# Altium integrated library Capacitos$.IntLib: 174 symbols (part 1 of 2)
Pins are listed as number, name and electrical type; pins without a type are passive.

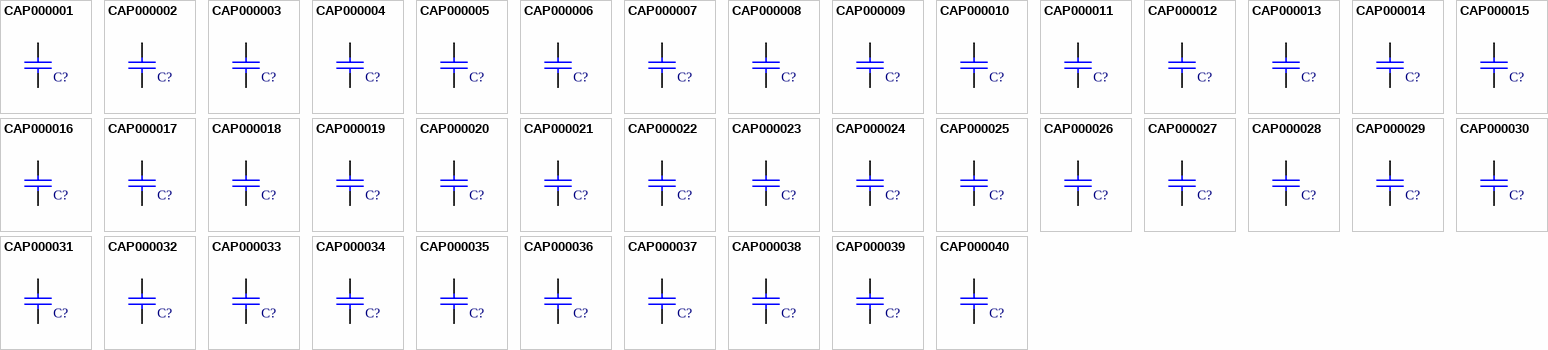
[diagram p0: symbols CAP000001 to CAP000040]

## CAP000001
designator C?, comment 10pF  (value not drawn)
CAP CER 10pF 50V TH; Manufactuer: TDK; Manufacturer-PN: FK28C0G1H100D; UoA Stock#: CAP000001; Assembly Method: Through hole; Item Type: Item; Path: ece/ts/Lists/Stock Inventory; Value: 10pF; Size/Package: Radial; Voltage/Current: 50V; Datasheet Link: http://share.engineering.auckland.ac.nz/ece/ts/Student%20Documents/CER%20CAP.pdf; Supplier1: Electus; Supplier1-PN: RC5312; Component Type: NA; Category: Capacitor; Review-date: 41972; Status: Active
footprint ECE-CAPR0.2x0.1TH
pins: 1, 2

## CAP000002
designator C?, comment 12pF  (value not drawn)
CAP CER 12pF 50V TH; UoA Stock#: CAP000002; Assembly Method: Through hole; Item Type: Item; Path: ece/ts/Lists/Stock Inventory; Value: 12pF; Size/Package: Radial; Voltage/Current: 50V; Datasheet Link: http://share.engineering.auckland.ac.nz/ece/ts/Student%20Documents/CER%20CAP.pdf; Component Type: NA; Category: Capacitor; Status: Obsolete
footprint ECE-CAPR0.2x0.1TH
pins: 1, 2

## CAP000003
designator C?, comment 15pF  (value not drawn)
CAP CER 15pF 50V TH; Manufactuer: Murata; Manufacturer-PN: RPE5C1H150J2K1Z03B; UoA Stock#: CAP000003; Assembly Method: Through hole; Item Type: Item; Path: ece/ts/Lists/Stock Inventory; Value: 15pF; Size/Package: Radial; Voltage/Current: 50V; Datasheet Link: http://share.engineering.auckland.ac.nz/ece/ts/Student%20Documents/CAP-Murata-L0010E.pdf; Supplier1: Electus; Supplier1-PN: RC5314; Component Type: NA; Category: Capacitor; Review-date: 41972; Status: Active
footprint ECE-CAPR0.2x0.1TH
pins: 1, 2

## CAP000004
designator C?, comment 18pF  (value not drawn)
CAP CER 18pF 50V TH; UoA Stock#: CAP000004; Assembly Method: Through hole; Item Type: Item; Path: ece/ts/Lists/Stock Inventory; Value: 18pF; Size/Package: Radial; Voltage/Current: 50V; Datasheet Link: http://share.engineering.auckland.ac.nz/ece/ts/Student%20Documents/CER%20CAP.pdf; Component Type: NA; Category: Capacitor; Status: Obsolete
footprint ECE-CAPR0.2x0.1TH
pins: 1, 2

## CAP000005
designator C?, comment 22pF  (value not drawn)
CAP CER 22pF 50V TH; Manufactuer: Murata; Manufacturer-PN: RPE5C1H220J2K1Z03B; UoA Stock#: CAP000005; Assembly Method: Through hole; Item Type: Item; Path: ece/ts/Lists/Stock Inventory; Value: 22pF; Size/Package: Radial; Voltage/Current: 50V; Datasheet Link: http://share.engineering.auckland.ac.nz/ece/ts/Student%20Documents/CAP-Murata-L0010E.pdf; Supplier1: Electus; Supplier1-PN: RC5316; Component Type: NA; Category: Capacitor; Review-date: 41972; Status: Active
footprint ECE-CAPR0.2x0.1TH
pins: 1, 2

## CAP000006
designator C?, comment 27pF  (value not drawn)
CAP CER 27pF 50V TH; UoA Stock#: CAP000006; Assembly Method: Through hole; Item Type: Item; Path: ece/ts/Lists/Stock Inventory; Value: 27pF; Size/Package: Radial; Voltage/Current: 50V; Datasheet Link: http://share.engineering.auckland.ac.nz/ece/ts/Student%20Documents/CER%20CAP.pdf; Component Type: NA; Category: Capacitor; Status: Obsolete
footprint ECE-CAPR0.2x0.1TH
pins: 1, 2

## CAP000007
designator C?, comment 33pF  (value not drawn)
CAP CER 33pF 50V TH; Manufactuer: TDK; Manufacturer-PN: FK28C0G1H330J; UoA Stock#: CAP000007; Assembly Method: Through hole; Item Type: Item; Path: ece/ts/Lists/Stock Inventory; Value: 33pF; Size/Package: Radial; Voltage/Current: 50V; Datasheet Link: http://share.engineering.auckland.ac.nz/ece/ts/Student%20Documents/CER%20CAP.pdf; Supplier1: Electus; Supplier1-PN: RC5318; Component Type: NA; Category: Capacitor; Review-date: 41972; Status: Active
footprint ECE-CAPR0.2x0.1TH
pins: 1, 2

## CAP000008
designator C?, comment 39pF  (value not drawn)
CAP CER 39pF 50V TH; UoA Stock#: CAP000008; Assembly Method: Through hole; Item Type: Item; Path: ece/ts/Lists/Stock Inventory; Value: 39pF; Size/Package: Radial; Voltage/Current: 50V; Datasheet Link: http://share.engineering.auckland.ac.nz/ece/ts/Student%20Documents/CER%20CAP.pdf; Component Type: NA; Category: Capacitor; Status: Obsolete
footprint ECE-CAPR0.2x0.1TH
pins: 1, 2

## CAP000009
designator C?, comment 47pF  (value not drawn)
CAP CER 47pF 50V TH; Manufactuer: TDK; Manufacturer-PN: FK28C0G1H470J; UoA Stock#: CAP000009; Assembly Method: Through hole; Item Type: Item; Path: ece/ts/Lists/Stock Inventory; Value: 47pF; Size/Package: Radial; Voltage/Current: 50V; Datasheet Link: http://share.engineering.auckland.ac.nz/ece/ts/Student%20Documents/CER%20CAP.pdf; Supplier1: Electus; Supplier1-PN: RC5320; Component Type: NA; Category: Capacitor; Review-date: 41972; Status: Active
footprint ECE-CAPR0.2x0.1TH
pins: 1, 2

## CAP000010
designator C?, comment 56pF  (value not drawn)
CAP CER 56pF 50V TH; UoA Stock#: CAP000010; Assembly Method: Through hole; Item Type: Item; Path: ece/ts/Lists/Stock Inventory; Value: 56pF; Size/Package: Radial; Voltage/Current: 50V; Datasheet Link: http://share.engineering.auckland.ac.nz/ece/ts/Student%20Documents/CER%20CAP.pdf; Component Type: NA; Category: Capacitor; Status: Obsolete
footprint ECE-CAPR0.2x0.1TH
pins: 1, 2

## CAP000011
designator C?, comment 68pF  (value not drawn)
CAP CER 68pF 50V TH; Manufactuer: Murata; Manufacturer-PN: RPE5C1H680J2K1Z03B; UoA Stock#: CAP000011; Assembly Method: Through hole; Item Type: Item; Path: ece/ts/Lists/Stock Inventory; Value: 68pF; Size/Package: Radial; Voltage/Current: 50V; Datasheet Link: http://share.engineering.auckland.ac.nz/ece/ts/Student%20Documents/CAP-Murata-L0010E.pdf; Supplier1: Electus; Supplier1-PN: RC5322; Component Type: NA; Category: Capacitor; Review-date: 41972; Status: Active
footprint ECE-CAPR0.2x0.1TH
pins: 1, 2

## CAP000012
designator C?, comment 82pF  (value not drawn)
CAP CER82pF 50V TH; UoA Stock#: CAP000012; Assembly Method: Through hole; Item Type: Item; Path: ece/ts/Lists/Stock Inventory; Value: 82pF; Size/Package: Radial; Voltage/Current: 50V; Datasheet Link: http://share.engineering.auckland.ac.nz/ece/ts/Student%20Documents/CER%20CAP.pdf; Component Type: NA; Category: Capacitor; Status: Obsolete
footprint ECE-CAPR0.2x0.1TH
pins: 1, 2

## CAP000013
designator C?, comment 100pF  (value not drawn)
CAP CER 100pF 50V TH; Manufactuer: Murata; Manufacturer-PN: RPE5C1H101J2K1A03B; UoA Stock#: CAP000013; Assembly Method: Through hole; Item Type: Item; Path: ece/ts/Lists/Stock Inventory; Value: 100pF; Size/Package: Radial; Voltage/Current: 50V; Datasheet Link: http://share.engineering.auckland.ac.nz/ece/ts/Student%20Documents/CAP-Murata-L0010E.pdf; Supplier1: Electus; Supplier1-PN: RC5324; Component Type: NA; Category: Capacitor; Review-date: 41972; Status: Active
footprint ECE-CAPR0.2x0.1TH
pins: 1, 2

## CAP000014
designator C?, comment 120pF  (value not drawn)
CAP CER 120pF 50V TH; UoA Stock#: CAP000014; Assembly Method: Through hole; Item Type: Item; Path: ece/ts/Lists/Stock Inventory; Value: 120pF; Size/Package: Radial; Voltage/Current: 50V; Datasheet Link: http://share.engineering.auckland.ac.nz/ece/ts/Student%20Documents/CER%20CAP.pdf; Component Type: NA; Category: Capacitor; Status: Obsolete
footprint ECE-CAPR0.2x0.1TH
pins: 1, 2

## CAP000015
designator C?, comment 150pF  (value not drawn)
CAP CER 150pF 50V TH; Manufactuer: TDK; Manufacturer-PN: FK28C0G1H151J; UoA Stock#: CAP000015; Assembly Method: Through hole; Item Type: Item; Path: ece/ts/Lists/Stock Inventory; Value: 150pF; Size/Package: Radial; Voltage/Current: 50V; Datasheet Link: http://share.engineering.auckland.ac.nz/ece/ts/Student%20Documents/CER%20CAP.pdf; Supplier1: Electus; Supplier1-PN: RC5326; Component Type: NA; Category: Capacitor; Review-date: 41972; Status: Active
footprint ECE-CAPR0.2x0.1TH
pins: 1, 2

## CAP000016
designator C?, comment 180pF  (value not drawn)
CAP CER 180pF 50V TH; UoA Stock#: CAP000016; Assembly Method: Through hole; Item Type: Item; Path: ece/ts/Lists/Stock Inventory; Value: 180pF; Size/Package: Radial; Voltage/Current: 50V; Datasheet Link: http://share.engineering.auckland.ac.nz/ece/ts/Student%20Documents/CER%20CAP.pdf; Component Type: NA; Category: Capacitor; Status: Obsolete
footprint ECE-CAPR0.2x0.1TH
pins: 1, 2

## CAP000017
designator C?, comment 220pF  (value not drawn)
CAP CER 220pF 50V TH; Manufactuer: TDK; Manufacturer-PN: FK28C0G1H221J; UoA Stock#: CAP000017; Assembly Method: Through hole; Item Type: Item; Path: ece/ts/Lists/Stock Inventory; Value: 220pF; Size/Package: Radial; Voltage/Current: 50V; Datasheet Link: http://share.engineering.auckland.ac.nz/ece/ts/Student%20Documents/CER%20CAP.pdf; Supplier1: Electus; Supplier1-PN: RC5328; Component Type: NA; Category: Capacitor; Review-date: 41972; Status: Active
footprint ECE-CAPR0.2x0.1TH
pins: 1, 2

## CAP000018
designator C?, comment 270pF  (value not drawn)
CAP CER 270pF 50V TH; UoA Stock#: CAP000018; Assembly Method: Through hole; Item Type: Item; Path: ece/ts/Lists/Stock Inventory; Value: 270pF; Size/Package: Radial; Voltage/Current: 50V; Datasheet Link: http://share.engineering.auckland.ac.nz/ece/ts/Student%20Documents/CER%20CAP.pdf; Component Type: NA; Category: Capacitor; Status: Obsolete
footprint ECE-CAPR0.2x0.1TH
pins: 1, 2

## CAP000019
designator C?, comment 330pF  (value not drawn)
CAP CER 330pF 50V TH; Manufactuer: Murata; Manufacturer-PN: RDER71H331K0K1C03B; UoA Stock#: CAP000019; Assembly Method: Through hole; Item Type: Item; Path: ece/ts/Lists/Stock Inventory; Value: 330pF; Size/Package: Radial; Voltage/Current: 50V; Datasheet Link: http://share.engineering.auckland.ac.nz/ece/ts/Student%20Documents/CAP-Murata-RDER71H471K0K1C03B.pdf; Supplier1: Electus; Supplier1-PN: RC5330; Component Type: NA; Category: Capacitor; Review-date: 41972; Status: Active
footprint ECE-CAPR0.2x0.1TH
pins: 1, 2

## CAP000020
designator C?, comment 390pF  (value not drawn)
CAP CER 390pF 50V TH; UoA Stock#: CAP000020; Assembly Method: Through hole; Item Type: Item; Path: ece/ts/Lists/Stock Inventory; Value: 390pF; Size/Package: Radial; Voltage/Current: 50V; Datasheet Link: http://share.engineering.auckland.ac.nz/ece/ts/Student%20Documents/CER%20CAP.pdf; Component Type: NA; Category: Capacitor; Status: Obsolete
footprint ECE-CAPR0.2x0.1TH
pins: 1, 2

## CAP000021
designator C?, comment 470pF  (value not drawn)
CAP CER 470pF 50V TH; Manufactuer: Murata; Manufacturer-PN: RDER71H471K0K1C03B; UoA Stock#: CAP000021; Assembly Method: Through hole; Item Type: Item; Path: ece/ts/Lists/Stock Inventory; Value: 470pF; Size/Package: Radial; Voltage/Current: 50V; Datasheet Link: http://share.engineering.auckland.ac.nz/ece/ts/Student%20Documents/CAP-Murata-RDER71H471K0K1C03B.pdf; Supplier1: Electus; Supplier1-PN: RC5332; Component Type: NA; Category: Capacitor; Review-date: 41972; Status: Active
footprint ECE-CAPR0.2x0.1TH
pins: 1, 2

## CAP000022
designator C?, comment 560pF  (value not drawn)
CAP CER 560pF 50V TH; UoA Stock#: CAP000022; Assembly Method: Through hole; Item Type: Item; Path: ece/ts/Lists/Stock Inventory; Value: 560pF; Size/Package: Radial; Voltage/Current: 50V; Datasheet Link: http://share.engineering.auckland.ac.nz/ece/ts/Student%20Documents/CER%20CAP.pdf; Component Type: NA; Category: Capacitor; Status: Obsolete
footprint ECE-CAPR0.2x0.1TH
pins: 1, 2

## CAP000023
designator C?, comment 680pF  (value not drawn)
CAP CER 680pF 50V TH; Manufactuer: TDK; Manufacturer-PN: FK28C0G1H681J; UoA Stock#: CAP000023; Assembly Method: Through hole; Item Type: Item; Path: ece/ts/Lists/Stock Inventory; Value: 680pF; Size/Package: Radial; Voltage/Current: 50V; Datasheet Link: http://share.engineering.auckland.ac.nz/ece/ts/Student%20Documents/CER%20CAP.pdf; Supplier1: Electus; Supplier1-PN: RC5334; Component Type: NA; Category: Capacitor; Review-date: 41972; Status: Active
footprint ECE-CAPR0.2x0.1TH
pins: 1, 2

## CAP000024
designator C?, comment 820pF  (value not drawn)
CAP CER 820pF 50V TH; UoA Stock#: CAP000024; Assembly Method: Through hole; Item Type: Item; Path: ece/ts/Lists/Stock Inventory; Value: 820pF; Size/Package: Radial; Voltage/Current: 50V; Datasheet Link: http://share.engineering.auckland.ac.nz/ece/ts/Student%20Documents/CER%20CAP.pdf; Component Type: NA; Category: Capacitor; Status: Obsolete
footprint ECE-CAPR0.2x0.1TH
pins: 1, 2

## CAP000025
designator C?, comment 1nF  (value not drawn)
CAP CER 1nF 50V TH; Manufactuer: TDK; Manufacturer-PN: FK28C0G1H102J; UoA Stock#: CAP000025; Assembly Method: Through hole; Item Type: Item; Path: ece/ts/Lists/Stock Inventory; Value: 1nF; Size/Package: Radial; Voltage/Current: 50V; Datasheet Link: http://share.engineering.auckland.ac.nz/ece/ts/Student%20Documents/CER%20CAP.pdf; Supplier1: Electus; Supplier1-PN: ER5336; Component Type: NA; Category: Capacitor; Review-date: 41972; Status: Active
footprint ECE-CAPR0.2x0.1TH
pins: 1, 2

## CAP000026
designator C?, comment 1.2nF  (value not drawn)
CAP CER 1.2nF 50V TH; UoA Stock#: CAP000026; Assembly Method: Through hole; Item Type: Item; Path: ece/ts/Lists/Stock Inventory; Value: 1.2nF; Size/Package: Radial; Voltage/Current: 50V; Datasheet Link: http://share.engineering.auckland.ac.nz/ece/ts/Student%20Documents/CER%20CAP.pdf; Component Type: NA; Category: Capacitor; Status: Obsolete
footprint ECE-CAPR0.2x0.1TH
pins: 1, 2

## CAP000027
designator C?, comment 1.5nF  (value not drawn)
CAP CER 1.5nF 50V TH; Manufactuer: TDK; Manufacturer-PN: FK28X7R1H152K; UoA Stock#: CAP000027; Assembly Method: Through hole; Item Type: Item; Path: ece/ts/Lists/Stock Inventory; Value: 1.5nF; Size/Package: Radial; Voltage/Current: 50V; Datasheet Link: http://share.engineering.auckland.ac.nz/ece/ts/Student%20Documents/CER%20CAP.pdf; Supplier1: Electus; Supplier1-PN: ER5338; Component Type: NA; Category: Capacitor; Review-date: 41972; Status: Active
footprint ECE-CAPR0.2x0.1TH
pins: 1, 2

## CAP000028
designator C?, comment 1.8nF  (value not drawn)
CAP CER 1.8nF 50V TH; UoA Stock#: CAP000028; Assembly Method: Through hole; Item Type: Item; Path: ece/ts/Lists/Stock Inventory; Value: 1.8nF; Size/Package: Radial; Voltage/Current: 50V; Datasheet Link: http://share.engineering.auckland.ac.nz/ece/ts/Student%20Documents/CER%20CAP.pdf; Component Type: NA; Category: Capacitor; Status: Obsolete
footprint ECE-CAPR0.2x0.1TH
pins: 1, 2

## CAP000029
designator C?, comment 2.2nF  (value not drawn)
CAP CER 2.2nF 50V TH; Manufactuer: Murata; Manufacturer-PN: RPE5C1H222J2K1A03B; UoA Stock#: CAP000029; Assembly Method: Through hole; Item Type: Item; Path: ece/ts/Lists/Stock Inventory; Value: 2.2nF; Size/Package: Radial; Voltage/Current: 50V; Datasheet Link: http://share.engineering.auckland.ac.nz/ece/ts/Student%20Documents/CAP-Murata-L0010E.pdf; Supplier1: Electus; Supplier1-PN: ER5340; Component Type: NA; Category: Capacitor; Review-date: 41972; Status: Active
footprint ECE-CAPR0.2x0.1TH
pins: 1, 2

## CAP000030
designator C?, comment 2.7nF  (value not drawn)
CAP CER 2.7nF 50V TH; UoA Stock#: CAP000030; Assembly Method: Through hole; Item Type: Item; Path: ece/ts/Lists/Stock Inventory; Value: 2.7nF; Size/Package: Radial; Voltage/Current: 50V; Datasheet Link: http://share.engineering.auckland.ac.nz/ece/ts/Student%20Documents/CER%20CAP.pdf; Component Type: NA; Category: Capacitor; Status: Obsolete
footprint ECE-CAPR0.2x0.1TH
pins: 1, 2

## CAP000031
designator C?, comment 3.3nF  (value not drawn)
CAP CER 3.3nF 50V TH; Manufactuer: Murata; Manufacturer-PN: RHEL81H332K1K1A03B; UoA Stock#: CAP000031; Assembly Method: Through hole; Item Type: Item; Path: ece/ts/Lists/Stock Inventory; Value: 3.3nF; Size/Package: Radial; Voltage/Current: 50V; Datasheet Link: http://share.engineering.auckland.ac.nz/ece/ts/Student%20Documents/CAP-Murata-L0010E.pdf; Supplier1: Electus; Supplier1-PN: ER5342; Component Type: NA; Category: Capacitor; Review-date: 41972; Status: Active
footprint ECE-CAPR0.2x0.1TH
pins: 1, 2

## CAP000032
designator C?, comment 3.9nF  (value not drawn)
CAP CER 3.9nF 50V TH; UoA Stock#: CAP000032; Assembly Method: Through hole; Item Type: Item; Path: ece/ts/Lists/Stock Inventory; Value: 3.9nF; Size/Package: Radial; Voltage/Current: 50V; Datasheet Link: http://share.engineering.auckland.ac.nz/ece/ts/Student%20Documents/CER%20CAP.pdf; Component Type: NA; Category: Capacitor; Status: Obsolete
footprint ECE-CAPR0.2x0.1TH
pins: 1, 2

## CAP000033
designator C?, comment 4.7nF  (value not drawn)
CAP CER 4.7nF 50V TH; Manufactuer: Murata; Manufacturer-PN: RPER71H472K2K1A03B; UoA Stock#: CAP000033; Assembly Method: Through hole; Item Type: Item; Path: ece/ts/Lists/Stock Inventory; Value: 4.7nF; Size/Package: Radial; Voltage/Current: 50V; Datasheet Link: http://share.engineering.auckland.ac.nz/ece/ts/Student%20Documents/CAP-Murata-L0010E.pdf; Supplier1: Electus; Supplier1-PN: ER5344; Component Type: NA; Category: Capacitor; Review-date: 41972; Status: Active
footprint ECE-CAPR0.2x0.1TH
pins: 1, 2

## CAP000034
designator C?, comment 5.6nF  (value not drawn)
CAP CER 5.6nF 50V TH; UoA Stock#: CAP000034; Assembly Method: Through hole; Item Type: Item; Path: ece/ts/Lists/Stock Inventory; Value: 5.6nF; Size/Package: Radial; Voltage/Current: 50V; Datasheet Link: http://share.engineering.auckland.ac.nz/ece/ts/Student%20Documents/CER%20CAP.pdf; Component Type: NA; Category: Capacitor; Status: Obsolete
footprint ECE-CAPR0.2x0.1TH
pins: 1, 2

## CAP000035
designator C?, comment 6.8nF  (value not drawn)
CAP CER 6.8nF 50V TH; Manufactuer: Murata; Manufacturer-PN: RDER71H682K0K1C03B; UoA Stock#: CAP000035; Assembly Method: Through hole; Item Type: Item; Path: ece/ts/Lists/Stock Inventory; Value: 6.8nF; Size/Package: Radial; Voltage/Current: 50V; Datasheet Link: http://share.engineering.auckland.ac.nz/ece/ts/Student%20Documents/CAP-Murata-RDER71H471K0K1C03B.pdf; Supplier1: Electus; Supplier1-PN: ER5346; Component Type: NA; Category: Capacitor; Review-date: 41972; Status: Active
footprint ECE-CAPR0.2x0.1TH
pins: 1, 2

## CAP000036
designator C?, comment 8.2nF  (value not drawn)
CAP CER 8.2nF 50V TH; UoA Stock#: CAP000036; Assembly Method: Through hole; Item Type: Item; Path: ece/ts/Lists/Stock Inventory; Value: 8.2nF; Size/Package: Radial; Voltage/Current: 50V; Datasheet Link: http://share.engineering.auckland.ac.nz/ece/ts/Student%20Documents/CER%20CAP.pdf; Component Type: NA; Category: Capacitor; Status: Obsolete
footprint ECE-CAPR0.2x0.1TH
pins: 1, 2

## CAP000037
designator C?, comment 10nF  (value not drawn)
CAP CER 10nF 50V TH; Manufactuer: Murata; Manufacturer-PN: RDER71H103K0M1C03A; UoA Stock#: CAP000037; Assembly Method: Through hole; Item Type: Item; Path: ece/ts/Lists/Stock Inventory; Value: 10nF; Size/Package: Radial; Voltage/Current: 50V; Datasheet Link: http://share.engineering.auckland.ac.nz/ece/ts/Student%20Documents/CAP-Murata-RDER71H471K0K1C03B.pdf; Supplier1: Electus; Supplier1-PN: ER5348; Component Type: NA; Category: Capacitor; Review-date: 41972; Status: Active
footprint ECE-CAPR0.2x0.1TH
pins: 1, 2

## CAP000038
designator C?, comment 12nF  (value not drawn)
CAP CER 12nF 50V TH; UoA Stock#: CAP000038; Assembly Method: Through hole; Item Type: Item; Path: ece/ts/Lists/Stock Inventory; Value: 12nF; Size/Package: Radial; Voltage/Current: 50V; Datasheet Link: http://share.engineering.auckland.ac.nz/ece/ts/Student%20Documents/CER%20CAP.pdf; Component Type: NA; Category: Capacitor; Status: Obsolete
footprint ECE-CAPR0.2x0.1TH
pins: 1, 2

## CAP000039
designator C?, comment 15nF  (value not drawn)
CAP CER 15nF 50V TH; Manufactuer: Murata; Manufacturer-PN: RHEL81H153K1K1A03B; UoA Stock#: CAP000039; Assembly Method: Through hole; Item Type: Item; Path: ece/ts/Lists/Stock Inventory; Value: 15nF; Size/Package: Radial; Voltage/Current: 50V; Datasheet Link: http://share.engineering.auckland.ac.nz/ece/ts/Student%20Documents/CAP-Murata-L0010E.pdf; Supplier1: Electus; Supplier1-PN: ER5350; Component Type: NA; Category: Capacitor; Review-date: 41972; Status: Active
footprint ECE-CAPR0.2x0.1TH
pins: 1, 2

## CAP000040
designator C?, comment 18nF  (value not drawn)
CAP CER 18nF 50V TH; UoA Stock#: CAP000040; Assembly Method: Through hole; Item Type: Item; Path: ece/ts/Lists/Stock Inventory; Value: 18nF; Size/Package: Radial; Voltage/Current: 50V; Datasheet Link: http://share.engineering.auckland.ac.nz/ece/ts/Student%20Documents/CER%20CAP.pdf; Component Type: NA; Category: Capacitor; Status: Obsolete
footprint ECE-CAPR0.2x0.1TH
pins: 1, 2

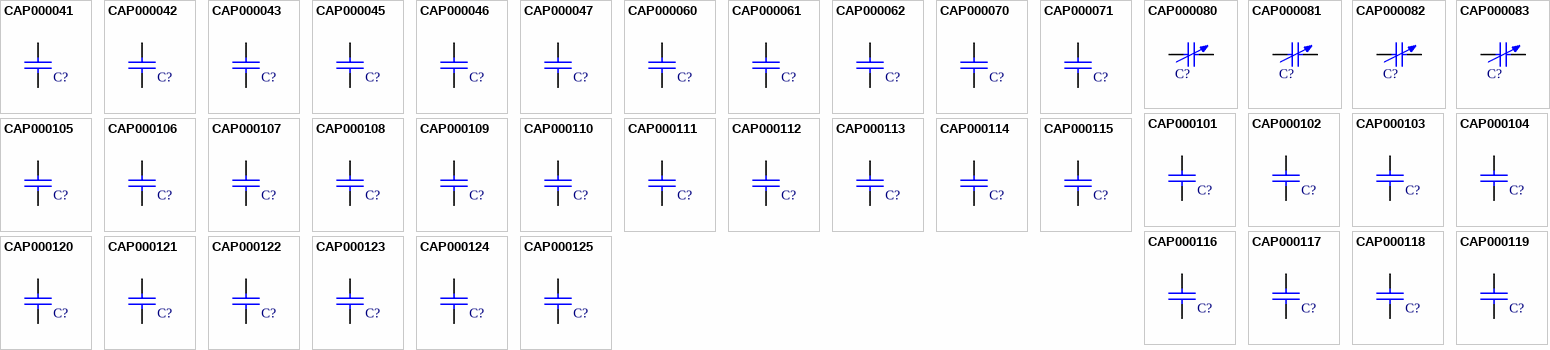
[diagram p1: symbols CAP000041 to CAP000125]

## CAP000041
designator C?, comment 22nF  (value not drawn)
CAP CER 22nF 50V TH; Manufactuer: Murata; Manufacturer-PN: RHEL81H223K1K1A03B; UoA Stock#: CAP000041; Assembly Method: Through hole; Item Type: Item; Path: ece/ts/Lists/Stock Inventory; Value: 22nF; Size/Package: Radial; Voltage/Current: 50V; Datasheet Link: http://share.engineering.auckland.ac.nz/ece/ts/Student%20Documents/CAP-Murata-L0010E.pdf; Supplier1: Electus; Supplier1-PN: ER5352; Component Type: NA; Category: Capacitor; Review-date: 41972; Status: Active
footprint ECE-CAPR0.2x0.1TH
pins: 1, 2

## CAP000042
designator C?, comment 27nF  (value not drawn)
CAP CER 27nF 50V TH; UoA Stock#: CAP000042; Assembly Method: Through hole; Item Type: Item; Path: ece/ts/Lists/Stock Inventory; Value: 27nF; Size/Package: Radial; Voltage/Current: 50V; Datasheet Link: http://share.engineering.auckland.ac.nz/ece/ts/Student%20Documents/CER%20CAP.pdf; Component Type: NA; Category: Capacitor; Status: Obsolete
footprint ECE-CAPR0.2x0.1TH
pins: 1, 2

## CAP000043
designator C?, comment 33nF  (value not drawn)
CAP CER 33nF 50V TH; Manufactuer: Murata; Manufacturer-PN: RHEL81H333K1K1A03B; UoA Stock#: CAP000043; Assembly Method: Through hole; Item Type: Item; Path: ece/ts/Lists/Stock Inventory; Value: 33nF; Size/Package: Radial; Voltage/Current: 50V; Datasheet Link: http://share.engineering.auckland.ac.nz/ece/ts/Student%20Documents/CAP-Murata-L0010E.pdf; Supplier1: Electus; Supplier1-PN: ER5354; Component Type: NA; Category: Capacitor; Review-date: 41972; Status: Active
footprint ECE-CAPR0.2x0.1TH
pins: 1, 2

## CAP000045
designator C?, comment 47nF  (value not drawn)
CAP CER 47nF 50V TH; Manufactuer: Murata; Manufacturer-PN: RHEL81H473K1K1A03B; UoA Stock#: CAP000045; Assembly Method: Through hole; Item Type: Item; Path: ece/ts/Lists/Stock Inventory; Value: 47nF; Size/Package: Radial; Voltage/Current: 50V; Datasheet Link: http://share.engineering.auckland.ac.nz/ece/ts/Student%20Documents/CAP-Murata-L0010E.pdf; Supplier1: Electus; Supplier1-PN: ER5356; Component Type: NA; Category: Capacitor; Review-date: 41972; Status: Active
footprint ECE-CAPR0.2x0.1TH
pins: 1, 2

## CAP000046
designator C?, comment 56nF  (value not drawn)
CAP CER 56nF 50V TH; UoA Stock#: CAP000046; Assembly Method: Through hole; Item Type: Item; Path: ece/ts/Lists/Stock Inventory; Value: 56nF; Size/Package: Radial; Voltage/Current: 50V; Datasheet Link: http://share.engineering.auckland.ac.nz/ece/ts/Student%20Documents/CER%20CAP.pdf; Component Type: NA; Category: Capacitor; Status: Obsolete
footprint ECE-CAPR0.2x0.1TH
pins: 1, 2

## CAP000047
designator C?, comment 68nF  (value not drawn)
CAP CER 68nF 50V TH; Manufactuer: Murata; Manufacturer-PN: RHEL81H683K1K1A03B; UoA Stock#: CAP000047; Assembly Method: Through hole; Item Type: Item; Path: ece/ts/Lists/Stock Inventory; Value: 68nF; Size/Package: Radial; Voltage/Current: 50V; Datasheet Link: http://share.engineering.auckland.ac.nz/ece/ts/Student%20Documents/CAP-Murata-L0010E.pdf; Supplier1: Electus; Supplier1-PN: ER5358; Component Type: NA; Category: Capacitor; Review-date: 41972; Status: Active
footprint ECE-CAPR0.2x0.1TH
pins: 1, 2

## CAP000060
designator C?, comment 10nF  (value not drawn)
CAP MONO 10nF 50 VTH; Manufactuer: Murata; UoA Stock#: CAP000060; Assembly Method: Through hole; Voltage/Current: 50V; Item Type: Item; Path: ece/ts/Lists/Stock Inventory; Value: 10nF; Size/Package: Radial; Datasheet Link: http://share.engineering.auckland.ac.nz/ece/ts/Student%20Documents/CAP-Murata-RDER71H471K0K1C03B.pdf; Supplier1: Electus; Supplier1-PN: RC5480; Component Type: NA; Category: Capacitor; Review-date: 41989; Status: Active
footprint ECE-CAPR0.2x0.1TH
pins: 1, 2

## CAP000061
designator C?, comment 100nF  (value not drawn)
CAP MONO 100nF 50V TH; Manufactuer: Murata; UoA Stock#: CAP000061; Assembly Method: Through hole; Item Type: Item; Path: ece/ts/Lists/Stock Inventory; Value: 100nF; Size/Package: Radial; Voltage/Current: 50V; Datasheet Link: http://share.engineering.auckland.ac.nz/ece/ts/Student%20Documents/CAP-Murata-RDER71H471K0K1C03B.pdf; Supplier1: Electus; Supplier1-PN: RC5490; Component Type: NA; Category: Capacitor; Review-date: 41990; Status: Active
footprint ECE-CAPR0.2x0.1TH
pins: 1, 2

## CAP000062
designator C?, comment 1uF  (value not drawn)
CAP MONO 1uF 50V TH; Manufactuer: Murata; UoA Stock#: CAP000062; Assembly Method: Through hole; Item Type: Item; Path: ece/ts/Lists/Stock Inventory; Value: 1uF; Size/Package: Radial; Voltage/Current: 50V; Datasheet Link: http://share.engineering.auckland.ac.nz/ece/ts/Student%20Documents/CAP-Murata-RDER71H471K0K1C03B.pdf; Supplier1: Electus; Supplier1-PN: RC5499; Component Type: NA; Category: Capacitor; Review-date: 41991; Status: Active
footprint ECE-CAPR0.2x0.1TH
pins: 1, 2

## CAP000070
designator C?, comment 0.1uF  (value not drawn)
CAP POLY 0.1uF TH; Manufactuer: Kemet; UoA Stock#: CAP000070; Assembly Method: Through hole; Voltage/Current: 400V; Item Type: Item; Path: ece/ts/Lists/Stock Inventory; Value: 0.1uF; Size/Package: Radial; Datasheet Link: http://share.engineering.auckland.ac.nz/ece/ts/Student%20Documents/F3301_R76-PolyProp.pdf; Supplier1: Captron; Supplier1-PN: PE0.22-400F15-G; Component Type: NA; Category: Capacitor; Review-date: 41990; Status: Active
footprint ECE-CAPA15-18x5TH
pins: 1, 2

## CAP000071
designator C?, comment 0.22uF  (value not drawn)
CAP POLY 0.22uF TH; Manufactuer: Kemet; UoA Stock#: CAP000071; Assembly Method: Through hole; Voltage/Current: 400V; Item Type: Item; Path: ece/ts/Lists/Stock Inventory; Value: 0.22uF; Size/Package: Radial; Datasheet Link: http://share.engineering.auckland.ac.nz/ece/ts/Student%20Documents/F3301_R76-PolyProp.pdf; Supplier1: Captron; Supplier1-PN: PE0.1-400F15-G; Component Type: NA; Category: Capacitor; Review-date: 41991; Status: Active
footprint ECE-CAPA15-18x9TH
pins: 1, 2

## CAP000080
designator C?, comment 3-10pF  (value not drawn)
CAP TRIM 3-10pF TH; Manufactuer: Suntan; Manufacturer-PN: RV5714; UoA Stock#: CAP000080; Assembly Method: Through hole; Voltage/Current: 50V; Item Type: Item; Path: ece/ts/Lists/Stock Inventory; Value: 3-10pF; Size/Package: Radial; Datasheet Link: http://share.engineering.auckland.ac.nz/ece/ts/Student%20Documents/Trimcap.pdf; Supplier1: Jaycar Electronics; Supplier1-PN: RV5714; Component Type: NA; Category: Capacitor; Review-date: 41990; Status: Active
footprint ECE-CAPVR6.3X5TH
pins: 1, 2

## CAP000081
designator C?, comment 6.2-30pF  (value not drawn)
CAP TRIM 6.2-30pF TH; Manufactuer: Suntan; Manufacturer-PN: RV5716; UoA Stock#: CAP000081; Assembly Method: Through hole; Voltage/Current: 50; Item Type: Item; Path: ece/ts/Lists/Stock Inventory; Value: 6.2-30pF; Size/Package: Radial; Datasheet Link: http://share.engineering.auckland.ac.nz/ece/ts/Student%20Documents/Trimcap.pdf; Supplier1: Jaycar Electronics; Supplier1-PN: RV5716; Component Type: NA; Category: Capacitor; Review-date: 41991; Status: Active
footprint ECE-CAPVR6.3X5TH
pins: 1, 2

## CAP000082
designator C?, comment 6.8-40pF  (value not drawn)
CAP TRIM 6.8-40pF TH; Manufactuer: Suntan; UoA Stock#: CAP000082; Assembly Method: Through hole; Voltage/Current: 50V; Item Type: Item; Path: ece/ts/Lists/Stock Inventory; Value: 6.8-40pF; Size/Package: Radial; Datasheet Link: http://share.engineering.auckland.ac.nz/ece/ts/Student%20Documents/Trimcap.pdf; Supplier1: Jaycar Electronics; Supplier1-PN: RV5718; Component Type: NA; Category: Capacitor; Review-date: 41990; Status: Active
footprint ECE-CAPVR6.3X5TH
pins: 1, 2

## CAP000083
designator C?, comment 9.8-50pF  (value not drawn)
CAP TRIM 9.8-50pF TH; Manufactuer: Suntan; UoA Stock#: CAP000083; Assembly Method: Through hole; Voltage/Current: 50V; Item Type: Item; Path: ece/ts/Lists/Stock Inventory; Value: 9.8-50pF; Size/Package: Radial; Datasheet Link: http://share.engineering.auckland.ac.nz/ece/ts/Student%20Documents/Trimcap.pdf; Supplier1: Jaycar Electronics; Supplier1-PN: RV5720; Component Type: NA; Category: Capacitor; Review-date: 41991; Status: Active
footprint ECE-CAPVR6.3X5TH
pins: 1, 2

## CAP000101
designator C?, comment 1nF  (value not drawn)
CAP MKT 1nF 100V TH; Manufactuer: Suntan; Manufacturer-PN: TS05002A102KAA; UoA Stock#: CAP000101; Assembly Method: Through hole; Item Type: Item; Path: ece/ts/Lists/Stock Inventory; Value: 1nF; Size/Package: 7.5X2.5X6.5mm; Voltage/Current: 100V; Datasheet Link: http://share.engineering.auckland.ac.nz/ece/ts/Student%20Documents/Caps-TS05.pdf; Supplier1: Electus; Supplier1-PN: RM7010; Component Type: NA; Category: Capacitor; Review-date: 41990; Status: Active
footprint ECE-CAPR0.2x0.1TH
pins: 1, 2

## CAP000102
designator C?, comment 1.2nF  (value not drawn)
CAP MKT 1.2nF 100V TH; Manufactuer: Suntan; UoA Stock#: CAP000102; Assembly Method: Through hole; Item Type: Item; Path: ece/ts/Lists/Stock Inventory; Value: 1.2nF; Size/Package: Radial; Voltage/Current: 100V; Datasheet Link: http://share.engineering.auckland.ac.nz/ece/ts/Student%20Documents/Caps-TS05.pdf; Supplier1: Electus; Supplier1-PN: RM7012; Component Type: NA; Category: Capacitor; Review-date: 41991; Status: Active
footprint ECE-CAPR0.2x0.1TH
pins: 1, 2

## CAP000103
designator C?, comment 1.5nF  (value not drawn)
CAP MKT 1.5nF 100V TH; Manufactuer: Suntan; UoA Stock#: CAP000103; Assembly Method: Through hole; Item Type: Item; Path: ece/ts/Lists/Stock Inventory; Value: 1.5nF; Size/Package: Radial; Voltage/Current: 100V; Datasheet Link: http://share.engineering.auckland.ac.nz/ece/ts/Student%20Documents/Caps-TS05.pdf; Supplier1: Electus; Supplier1-PN: RM7015; Component Type: NA; Category: Capacitor; Review-date: 41990; Status: Active
footprint ECE-CAPR0.2x0.1TH
pins: 1, 2

## CAP000104
designator C?, comment 1.8nF  (value not drawn)
CAP MKT 1.8nF 100V TH; Manufactuer: Suntan; UoA Stock#: CAP000104; Assembly Method: Through hole; Item Type: Item; Path: ece/ts/Lists/Stock Inventory; Value: 1.8nF; Size/Package: Radial; Voltage/Current: 100V; Datasheet Link: http://share.engineering.auckland.ac.nz/ece/ts/Student%20Documents/Caps-TS05.pdf; Supplier1: Electus; Supplier1-PN: RG5018; Component Type: NA; Category: Capacitor; Review-date: 41991; Status: Active
footprint ECE-CAPR0.2x0.1TH
pins: 1, 2

## CAP000105
designator C?, comment 2.2nF  (value not drawn)
CAP MKT 2.2nF 100V TH; Manufactuer: Suntan; UoA Stock#: CAP000105; Assembly Method: Through hole; Item Type: Item; Path: ece/ts/Lists/Stock Inventory; Value: 2.2nF; Size/Package: Radial; Voltage/Current: 100V; Datasheet Link: http://share.engineering.auckland.ac.nz/ece/ts/Student%20Documents/Caps-TS05.pdf; Supplier1: Electus; Supplier1-PN: RM7022; Component Type: NA; Category: Capacitor; Status: Active
footprint ECE-CAPR0.2x0.1TH
pins: 1, 2

## CAP000106
designator C?, comment 2.7nF  (value not drawn)
CAP MKT 2.7nF 100V TH; Manufactuer: Suntan; UoA Stock#: CAP000106; Assembly Method: Through hole; Item Type: Item; Path: ece/ts/Lists/Stock Inventory; Value: 2.7nF; Size/Package: Radial; Voltage/Current: 100V; Datasheet Link: http://share.engineering.auckland.ac.nz/ece/ts/Student%20Documents/Caps-TS05.pdf; Supplier1: Electus; Supplier1-PN: RM7027; Component Type: NA; Category: Capacitor; Status: Active
footprint ECE-CAPR0.2x0.1TH
pins: 1, 2

## CAP000107
designator C?, comment 3.3nF  (value not drawn)
CAP MKT 3.3nF 100V TH; Manufactuer: Suntan; UoA Stock#: CAP000107; Assembly Method: Through hole; Item Type: Item; Path: ece/ts/Lists/Stock Inventory; Value: 3.3nF; Size/Package: Radial; Voltage/Current: 100V; Datasheet Link: http://share.engineering.auckland.ac.nz/ece/ts/Student%20Documents/Caps-TS05.pdf; Supplier1: Electus; Supplier1-PN: RM7033; Component Type: NA; Category: Capacitor; Status: Active
footprint ECE-CAPR0.2x0.1TH
pins: 1, 2

## CAP000108
designator C?, comment 3.9nF  (value not drawn)
CAP MKT 3.9nF 100V TH; Manufactuer: Suntan; UoA Stock#: CAP000108; Assembly Method: Through hole; Item Type: Item; Path: ece/ts/Lists/Stock Inventory; Value: 3.9nF; Size/Package: Radial; Voltage/Current: 100V; Datasheet Link: http://share.engineering.auckland.ac.nz/ece/ts/Student%20Documents/Caps-TS05.pdf; Supplier1: Electus; Supplier1-PN: RM7039; Component Type: NA; Category: Capacitor; Status: Active
footprint ECE-CAPR0.2x0.1TH
pins: 1, 2

## CAP000109
designator C?, comment 4.7nF  (value not drawn)
CAP MKT 4.7nF 100V TH; Manufactuer: Suntan; UoA Stock#: CAP000109; Assembly Method: Through hole; Item Type: Item; Path: ece/ts/Lists/Stock Inventory; Value: 4.7nF; Size/Package: Radial; Voltage/Current: 100V; Datasheet Link: http://share.engineering.auckland.ac.nz/ece/ts/Student%20Documents/Caps-TS05.pdf; Supplier1: Electus; Supplier1-PN: RM7047; Component Type: NA; Category: Capacitor; Status: Active
footprint ECE-CAPR0.2x0.1TH
pins: 1, 2

## CAP000110
designator C?, comment 5.6nF  (value not drawn)
CAP MKT 5.6nF 100V TH; Manufactuer: Suntan; UoA Stock#: CAP000110; Assembly Method: Through hole; Item Type: Item; Path: ece/ts/Lists/Stock Inventory; Value: 5.6nF; Size/Package: Radial; Voltage/Current: 100V; Datasheet Link: http://share.engineering.auckland.ac.nz/ece/ts/Student%20Documents/Caps-TS05.pdf; Supplier1: Electus; Supplier1-PN: RG5050; Component Type: NA; Category: Capacitor; Status: Active
footprint ECE-CAPR0.2x0.1TH
pins: 1, 2

## CAP000111
designator C?, comment 6.8nF  (value not drawn)
CAP MKT 6.8nF 100V TH; Manufactuer: Suntan; UoA Stock#: CAP000111; Assembly Method: Through hole; Item Type: Item; Path: ece/ts/Lists/Stock Inventory; Value: 6.8nF; Size/Package: Radial; Voltage/Current: 100V; Datasheet Link: http://share.engineering.auckland.ac.nz/ece/ts/Student%20Documents/Caps-TS05.pdf; Supplier1: Electus; Supplier1-PN: RM7055; Component Type: NA; Category: Capacitor; Status: Active
footprint ECE-CAPR0.2x0.1TH
pins: 1, 2

## CAP000112
designator C?, comment 8.2nF  (value not drawn)
CAP MKT 8.2nF 100V TH; Manufactuer: Suntan; UoA Stock#: CAP000112; Assembly Method: Through hole; Item Type: Item; Path: ece/ts/Lists/Stock Inventory; Value: 8.2nF; Size/Package: Radial; Voltage/Current: 100V; Datasheet Link: http://share.engineering.auckland.ac.nz/ece/ts/Student%20Documents/Caps-TS05.pdf; Supplier1: Electus; Supplier1-PN: RG5060; Component Type: NA; Category: Capacitor; Status: Active
footprint ECE-CAPR0.2x0.1TH
pins: 1, 2

## CAP000113
designator C?, comment 10nF  (value not drawn)
CAP MKT 10nF 100V TH; Manufactuer: Suntan; UoA Stock#: CAP000113; Assembly Method: Through hole; Item Type: Item; Path: ece/ts/Lists/Stock Inventory; Value: 10nF; Size/Package: Radial; Voltage/Current: 100V; Datasheet Link: http://share.engineering.auckland.ac.nz/ece/ts/Student%20Documents/Caps-TS05.pdf; Supplier1: Electus; Supplier1-PN: RM7065; Component Type: NA; Category: Capacitor; Status: Active
footprint ECE-CAPR0.2x0.1TH
pins: 1, 2

## CAP000114
designator C?, comment 12nF  (value not drawn)
CAP MKT 12nF 100V TH; Manufactuer: Suntan; UoA Stock#: CAP000114; Assembly Method: Through hole; Item Type: Item; Path: ece/ts/Lists/Stock Inventory; Value: 12nF; Size/Package: Radial; Voltage/Current: 100V; Datasheet Link: http://share.engineering.auckland.ac.nz/ece/ts/Student%20Documents/Caps-TS05.pdf; Supplier1: Electus; Supplier1-PN: RM7070; Component Type: NA; Category: Capacitor; Status: Active
footprint ECE-CAPR0.2x0.1TH
pins: 1, 2

## CAP000115
designator C?, comment 15nF  (value not drawn)
CAP MKT 15nF 100V TH; Manufactuer: Suntan; UoA Stock#: CAP000115; Assembly Method: Through hole; Item Type: Item; Path: ece/ts/Lists/Stock Inventory; Value: 15nF; Size/Package: Radial; Voltage/Current: 100V; Datasheet Link: http://share.engineering.auckland.ac.nz/ece/ts/Student%20Documents/Caps-TS05.pdf; Supplier1: Electus; Supplier1-PN: RM7075; Component Type: NA; Category: Capacitor; Status: Active
footprint ECE-CAPR0.2x0.1TH
pins: 1, 2

## CAP000116
designator C?, comment 18nF  (value not drawn)
CAP MKT 18nF 100V TH; Manufactuer: Suntan; UoA Stock#: CAP000116; Assembly Method: Through hole; Item Type: Item; Path: ece/ts/Lists/Stock Inventory; Value: 18nF; Size/Package: Radial; Voltage/Current: 100V; Datasheet Link: http://share.engineering.auckland.ac.nz/ece/ts/Student%20Documents/Caps-TS05.pdf; Supplier1: Electus; Supplier1-PN: RM7080; Component Type: NA; Category: Capacitor; Status: Active
footprint ECE-CAPR0.2x0.1TH
pins: 1, 2

## CAP000117
designator C?, comment 22nF  (value not drawn)
CAP MKT 22nF 100V TH; Manufactuer: Suntan; UoA Stock#: CAP000117; Assembly Method: Through hole; Item Type: Item; Path: ece/ts/Lists/Stock Inventory; Value: 22nF; Size/Package: Radial; Voltage/Current: 100V; Datasheet Link: http://share.engineering.auckland.ac.nz/ece/ts/Student%20Documents/Caps-TS05.pdf; Supplier1: Electus; Supplier1-PN: RM7085; Component Type: NA; Category: Capacitor; Status: Active
footprint ECE-CAPR0.2x0.1TH
pins: 1, 2

## CAP000118
designator C?, comment 27nF  (value not drawn)
CAP MKT 27nF 100V TH; Manufactuer: Suntan; UoA Stock#: CAP000118; Assembly Method: Through hole; Item Type: Item; Path: ece/ts/Lists/Stock Inventory; Value: 27nF; Size/Package: Radial; Voltage/Current: 100V; Datasheet Link: http://share.engineering.auckland.ac.nz/ece/ts/Student%20Documents/Caps-TS05.pdf; Supplier1: Electus; Supplier1-PN: RG5090; Component Type: NA; Category: Capacitor; Status: Active
footprint ECE-CAPR0.2x0.1TH
pins: 1, 2

## CAP000119
designator C?, comment 33nF  (value not drawn)
CAP MKT 33nF 100V TH; Manufactuer: Suntan; UoA Stock#: CAP000119; Assembly Method: Through hole; Item Type: Item; Path: ece/ts/Lists/Stock Inventory; Value: 33nF; Size/Package: Radial; Voltage/Current: 100V; Datasheet Link: http://share.engineering.auckland.ac.nz/ece/ts/Student%20Documents/Caps-TS05.pdf; Supplier1: Electus; Supplier1-PN: RM7095; Component Type: NA; Category: Capacitor; Status: Active
footprint ECE-CAPR0.2x0.1TH
pins: 1, 2

## CAP000120
designator C?, comment 39nF  (value not drawn)
CAP MKT 39nF 100V TH; Manufactuer: Suntan; UoA Stock#: CAP000120; Assembly Method: Through hole; Item Type: Item; Path: ece/ts/Lists/Stock Inventory; Value: 39nF; Size/Package: Radial; Voltage/Current: 100V; Datasheet Link: http://share.engineering.auckland.ac.nz/ece/ts/Student%20Documents/Caps-TS05.pdf; Supplier1: Electus; Supplier1-PN: RM7100; Component Type: NA; Category: Capacitor; Status: Active
footprint ECE-CAPR0.2x0.1TH
pins: 1, 2

## CAP000121
designator C?, comment 47nF  (value not drawn)
CAP MKT 47nF 100V TH; Manufactuer: Suntan; UoA Stock#: CAP000121; Assembly Method: Through hole; Item Type: Item; Path: ece/ts/Lists/Stock Inventory; Value: 47nF; Size/Package: Radial; Voltage/Current: 100V; Datasheet Link: http://share.engineering.auckland.ac.nz/ece/ts/Student%20Documents/Caps-TS05.pdf; Supplier1: Electus; Supplier1-PN: RM7105; Component Type: NA; Category: Capacitor; Status: Active
footprint ECE-CAPR0.2x0.1TH
pins: 1, 2

## CAP000122
designator C?, comment 56nF  (value not drawn)
CAP MKT 56nF 100V TH; Manufactuer: Suntan; UoA Stock#: CAP000122; Assembly Method: Through hole; Item Type: Item; Path: ece/ts/Lists/Stock Inventory; Value: 56nF; Size/Package: Radial; Voltage/Current: 100V; Datasheet Link: http://share.engineering.auckland.ac.nz/ece/ts/Student%20Documents/Caps-TS05.pdf; Supplier1: Electus; Supplier1-PN: RM7110; Component Type: NA; Category: Capacitor; Status: Active
footprint ECE-CAPR0.2x0.1TH
pins: 1, 2

## CAP000123
designator C?, comment 68nF  (value not drawn)
CAP MKT 68nF 100V TH; Manufactuer: Suntan; UoA Stock#: CAP000123; Assembly Method: Through hole; Item Type: Item; Path: ece/ts/Lists/Stock Inventory; Value: 68nF; Size/Package: Radial; Voltage/Current: 100V; Datasheet Link: http://share.engineering.auckland.ac.nz/ece/ts/Student%20Documents/Caps-TS05.pdf; Supplier1: Electus; Supplier1-PN: RM7115; Component Type: NA; Category: Capacitor; Status: Active
footprint ECE-CAPR0.2x0.1TH
pins: 1, 2

## CAP000124
designator C?, comment 82nF  (value not drawn)
CAP MKT 82nF 100V TH; Manufactuer: Suntan; UoA Stock#: CAP000124; Assembly Method: Through hole; Item Type: Item; Path: ece/ts/Lists/Stock Inventory; Value: 82nF; Size/Package: Radial; Voltage/Current: 100V; Datasheet Link: http://share.engineering.auckland.ac.nz/ece/ts/Student%20Documents/Caps-TS05.pdf; Supplier1: Electus; Supplier1-PN: RM7120; Component Type: NA; Category: Capacitor; Status: Active
footprint ECE-CAPR0.2x0.1TH
pins: 1, 2

## CAP000125
designator C?, comment 100nF  (value not drawn)
CAP MKT 100nF 100V TH; Manufactuer: Suntan; UoA Stock#: CAP000125; Assembly Method: Through hole; Item Type: Item; Path: ece/ts/Lists/Stock Inventory; Value: 100nF; Size/Package: Radial; Voltage/Current: 100V; Datasheet Link: http://share.engineering.auckland.ac.nz/ece/ts/Student%20Documents/Caps-TS05.pdf; Supplier1: Electus; Supplier1-PN: RM7125; Component Type: NA; Category: Capacitor; Status: Active
footprint ECE-CAPR0.2x0.1TH
pins: 1, 2

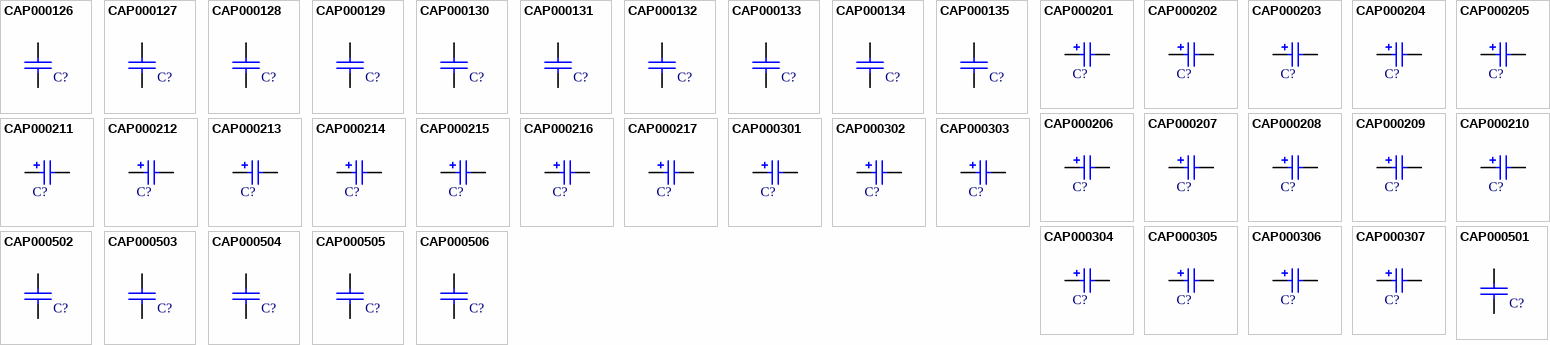
[diagram p2: symbols CAP000126 to CAP000506]

## CAP000126
designator C?, comment 120nF  (value not drawn)
CAP MKT 120nF 100V TH; Manufactuer: Suntan; UoA Stock#: CAP000126; Assembly Method: Through hole; Item Type: Item; Path: ece/ts/Lists/Stock Inventory; Value: 120nF; Size/Package: Radial; Voltage/Current: 100V; Datasheet Link: http://share.engineering.auckland.ac.nz/ece/ts/Student%20Documents/Caps-TS05.pdf; Supplier1: Electus; Supplier1-PN: RM7130; Component Type: NA; Category: Capacitor; Status: Active
footprint ECE-CAPR0.2x0.1TH
pins: 1, 2

## CAP000127
designator C?, comment 150nF  (value not drawn)
CAP MKT 150nF 100V TH; Manufactuer: Suntan; UoA Stock#: CAP000127; Assembly Method: Through hole; Item Type: Item; Path: ece/ts/Lists/Stock Inventory; Value: 150nF; Size/Package: Radial; Voltage/Current: 100V; Datasheet Link: http://share.engineering.auckland.ac.nz/ece/ts/Student%20Documents/Caps-TS05.pdf; Supplier1: Electus; Supplier1-PN: RM7135; Component Type: NA; Category: Capacitor; Status: Active
footprint ECE-CAPR0.2X0.17TH
pins: 1, 2

## CAP000128
designator C?, comment 180nF  (value not drawn)
CAP MKT 180nF 100V TH; Manufactuer: Suntan; UoA Stock#: CAP000128; Assembly Method: Through hole; Item Type: Item; Path: ece/ts/Lists/Stock Inventory; Value: 180nF; Size/Package: Radial; Voltage/Current: 100V; Datasheet Link: http://share.engineering.auckland.ac.nz/ece/ts/Student%20Documents/Caps-TS05.pdf; Supplier1: Electus; Supplier1-PN: RM7140; Component Type: NA; Category: Capacitor; Status: Active
footprint ECE-CAPR0.2x0.1TH
pins: 1, 2

## CAP000129
designator C?, comment 220nF  (value not drawn)
CAP MKT 220nF 100V TH; Manufactuer: Suntan; UoA Stock#: CAP000129; Assembly Method: Through hole; Item Type: Item; Path: ece/ts/Lists/Stock Inventory; Value: 220nF; Size/Package: Radial; Voltage/Current: 100V; Datasheet Link: http://share.engineering.auckland.ac.nz/ece/ts/Student%20Documents/Caps-TS05.pdf; Supplier1: Electus; Supplier1-PN: RM7145; Component Type: NA; Category: Capacitor; Status: Active
footprint ECE-CAPR0.2x0.1TH
pins: 1, 2

## CAP000130
designator C?, comment 270nF  (value not drawn)
CAP MKT 270nF 100V TH; Manufactuer: Suntan; UoA Stock#: CAP000130; Assembly Method: Through hole; Item Type: Item; Path: ece/ts/Lists/Stock Inventory; Value: 270nF; Size/Package: Radial; Voltage/Current: 100V; Datasheet Link: http://share.engineering.auckland.ac.nz/ece/ts/Student%20Documents/Caps-TS05.pdf; Supplier1: Electus; Supplier1-PN: RM7150; Component Type: NA; Category: Capacitor; Status: Active
footprint ECE-CAPR0.2x0.1TH
pins: 1, 2

## CAP000131
designator C?, comment 330nF  (value not drawn)
CAP MKT 330nF 100V TH; Manufactuer: Suntan; UoA Stock#: CAP000131; Assembly Method: Through hole; Item Type: Item; Path: ece/ts/Lists/Stock Inventory; Value: 330nF; Size/Package: Radial; Voltage/Current: 100V; Datasheet Link: http://share.engineering.auckland.ac.nz/ece/ts/Student%20Documents/Caps-TS05.pdf; Supplier1: Electus; Supplier1-PN: RM7153; Component Type: NA; Category: Capacitor; Status: Active
footprint ECE-CAPR0.2X0.23TH
pins: 1, 2

## CAP000132
designator C?, comment 390nF  (value not drawn)
CAP MKT 390nF 100V TH; Manufactuer: Suntan; UoA Stock#: CAP000132; Assembly Method: Through hole; Item Type: Item; Path: ece/ts/Lists/Stock Inventory; Value: 390nF; Size/Package: Radial; Voltage/Current: 100V; Datasheet Link: http://share.engineering.auckland.ac.nz/ece/ts/Student%20Documents/Caps-TS05.pdf; Supplier1: Electus; Supplier1-PN: RM7159; Component Type: NA; Category: Capacitor; Status: Active
footprint ECE-CAPR0.2X0.17TH
pins: 1, 2

## CAP000133
designator C?, comment 470nF  (value not drawn)
CAP MKT 470nF 100V TH; Manufactuer: Suntan; UoA Stock#: CAP000133; Assembly Method: Through hole; Item Type: Item; Path: ece/ts/Lists/Stock Inventory; Value: 470nF; Size/Package: Radial; Voltage/Current: 100V; Datasheet Link: http://share.engineering.auckland.ac.nz/ece/ts/Student%20Documents/Caps-TS05.pdf; Supplier1: Electus; Supplier1-PN: RM7165; Component Type: NA; Category: Capacitor; Status: Active
footprint ECE-CAPR0.2X0.17TH
pins: 1, 2

## CAP000134
designator C?, comment 560nF  (value not drawn)
CAP MKT 560nF 100V TH; Manufactuer: Suntan; UoA Stock#: CAP000134; Assembly Method: Through hole; Item Type: Item; Path: ece/ts/Lists/Stock Inventory; Value: 560nF; Size/Package: Radial; Voltage/Current: 100V; Datasheet Link: http://share.engineering.auckland.ac.nz/ece/ts/Student%20Documents/Caps-TS05.pdf; Supplier1: Electus; Supplier1-PN: RM7166; Component Type: NA; Category: Capacitor; Status: Active
footprint ECE-CAPR0.2X0.17TH
pins: 1, 2

## CAP000135
designator C?, comment 680nF  (value not drawn)
CAP MKT 680nF 100V TH; Manufactuer: Suntan; UoA Stock#: CAP000135; Assembly Method: Through hole; Item Type: Item; Path: ece/ts/Lists/Stock Inventory; Value: 680nF; Size/Package: Radial; Voltage/Current: 100V; Datasheet Link: http://share.engineering.auckland.ac.nz/ece/ts/Student%20Documents/Caps-TS05.pdf; Supplier1: Electus; Supplier1-PN: RM7168; Component Type: NA; Category: Capacitor; Status: Active
footprint ECE-CAPR0.2X0.23TH
pins: 1, 2

## CAP000201
designator C?, comment 1uF  (value not drawn)
CAP ELEC 1uF 63V TH; Manufactuer: Suntan; Manufacturer-PN: SK010M063ST; UoA Stock#: CAP000201; Assembly Method: Through hole; Item Type: Item; Path: ece/ts/Lists/Stock Inventory; Revision: July-2002: Re-released for DXP Platform.; Value: 1uF; Size/Package: 5X11; Voltage/Current: 63V; Datasheet Link: http://share.engineering.auckland.ac.nz/ece/ts/Student%20Documents/CAP-SK010M063ST.pdf; Supplier1: Electus; Supplier1-PN: RE6032; Component Type: NA; Category: Capacitor; Review-date: 41973; Status: Active
footprint ECE-CAPPR2-5X11TH
pins: 1, 2

## CAP000202
designator C?, comment 2.2uF  (value not drawn)
CAP ELEC 2.2uF 63V TH; Manufactuer: Panasonic; Manufacturer-PN: EEU-EB1J2R2S; UoA Stock#: CAP000202; Assembly Method: Through hole; Item Type: Item; Path: ece/ts/Lists/Stock Inventory; Revision: July-2002: Re-released for DXP Platform.; Value: 2.2uF; Size/Package: 5X11; Voltage/Current: 63V; Datasheet Link: http://share.engineering.auckland.ac.nz/ece/ts/Student%20Documents/CAP-EEU-FC1J220.pdf; Supplier1: Electus; Supplier1-PN: RE6042; Component Type: NA; Category: Capacitor; Review-date: 41974; Status: Active
footprint ECE-CAPPR2-5X11TH
pins: 1, 2

## CAP000203
designator C?, comment 4.7uF  (value not drawn)
CAP ELEC 4.7uF 63V TH; Manufactuer: Suntan; Manufacturer-PN: UPS1J4R7MDD; UoA Stock#: CAP000203; Assembly Method: Through hole; Item Type: Item; Path: ece/ts/Lists/Stock Inventory; Revision: July-2002: Re-released for DXP Platform.; Value: 4.7uF; Size/Package: 5X11; Voltage/Current: 63V; Datasheet Link: http://share.engineering.auckland.ac.nz/ece/ts/Student%20Documents/CAP-UPS1J4R7MDD.pdf; Supplier1: Electus; Supplier1-PN: RE6060; Component Type: NA; Category: Capacitor; Review-date: 41975; Status: Active
footprint ECE-CAPPR2-5X11TH
pins: 1, 2

## CAP000204
designator C?, comment 10uF  (value not drawn)
CAP ELEC 10uF 63V TH; Manufactuer: Suntan; Manufacturer-PN: EKM106M1JD11RR; UoA Stock#: CAP000204; Assembly Method: Through hole; Item Type: Item; Path: ece/ts/Lists/Stock Inventory; Revision: July-2002: Re-released for DXP Platform.; Value: 10uF; Size/Package: 5X11; Voltage/Current: 63V; Datasheet Link: http://share.engineering.auckland.ac.nz/ece/ts/Student%20Documents/CAP-SuntanTS14.pdf; Supplier1: Electus; Supplier1-PN: RE6075; Component Type: NA; Category: Capacitor; Review-date: 41976; Status: Active
footprint ECE-CAPPR2-5X11TH
pins: 1, 2

## CAP000205
designator C?, comment 22uF  (value not drawn)
CAP ELEC 22uF 63V TH; Manufactuer: Panasonic; Manufacturer-PN: EEU-FC1J220; UoA Stock#: CAP000205; Assembly Method: Through hole; Item Type: Item; Path: ece/ts/Lists/Stock Inventory; Revision: July-2002: Re-released for DXP Platform.; Value: 22uF; Size/Package: 6.3X11; Voltage/Current: 63V; Datasheet Link: http://share.engineering.auckland.ac.nz/ece/ts/Student%20Documents/CAP-EEU-FC1J220.pdf; Supplier1: Electus; Supplier1-PN: RE6080; Component Type: NA; Category: Capacitor; Review-date: 41978; Status: Active
footprint ECE-CAPPR2.5-6.3X11TH
pins: 1, 2

## CAP000206
designator C?, comment 47uF  (value not drawn)
CAP ELEC 47uF 63V TH; Manufactuer: Panasonic; Manufacturer-PN: EEU-FC1J470; UoA Stock#: CAP000206; Assembly Method: Through hole; Item Type: Item; Path: ece/ts/Lists/Stock Inventory; Revision: July-2002: Re-released for DXP Platform.; Value: 47uF; Size/Package: 8X11; Voltage/Current: 63V; Datasheet Link: http://share.engineering.auckland.ac.nz/ece/ts/Student%20Documents/CAP-EEU-FC1J220.pdf; Supplier1: Electus; Supplier1-PN: RE6122; Component Type: NA; Category: Capacitor; Review-date: 41980; Status: Active
footprint ECE-CAPPR3.5-8X11TH
pins: 1, 2